# EAGLE library part LORLIN-4-3 (library switch-lorlin)
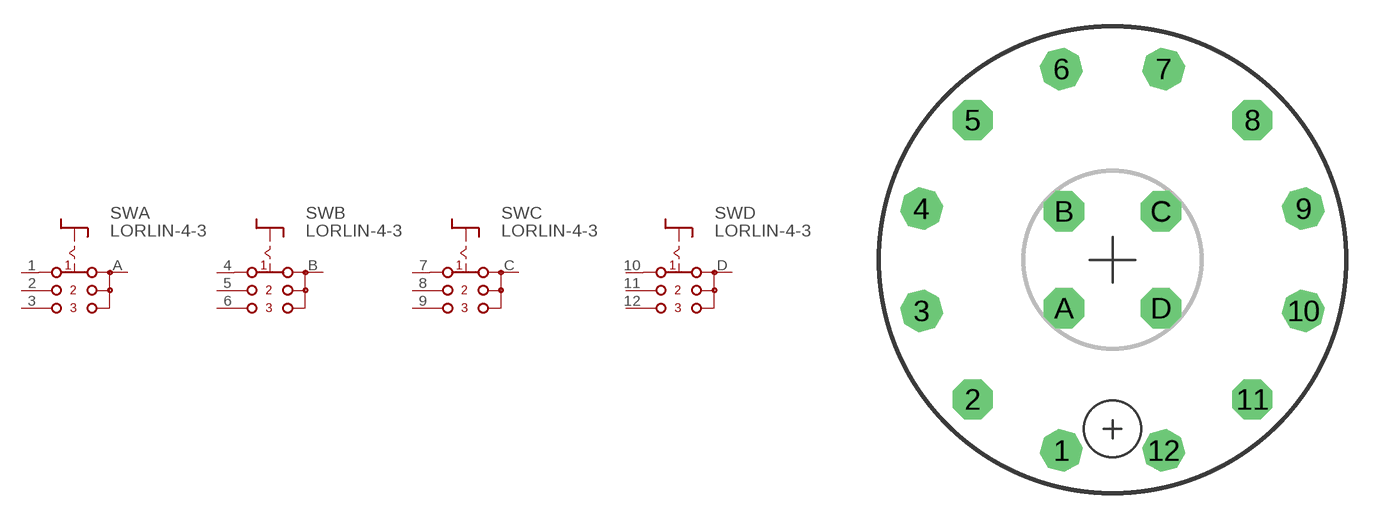
[diagram p3: symbol with the pads of LORLIN-4-3; footprint LORLIN-4-3]

Designator prefix SW; gates A=SW-1-3 B=SW-1-3 C=SW-1-3 D=SW-1-3

## LORLIN-4-3  [LORLIN-4-3]
1  A:1  pas
2  A:2  pas
3  A:3  pas
4  B:1  pas
5  B:2  pas
6  B:3  pas
7  C:1  pas
8  C:2  pas
9  C:3  pas
10  D:1  pas
11  D:2  pas
12  D:3  pas
A  A:S  pas
B  B:S  pas
C  C:S  pas
D  D:S  pas

## Footprint LORLIN-4-3 (pad centres in mm)
drill 1.5 octagon: 1 -2.873,-10.722; 2 -7.849,-7.849; 3 -10.722,-2.873; 4 -10.722,2.873; 5 -7.849,7.849; 6 -2.873,10.722; 7 2.873,10.722; 8 7.849,7.849; 9 10.722,2.873; 10 10.722,-2.873; 11 7.849,-7.849; 12 2.873,-10.722; A -2.722,-2.722; B -2.722,2.722; C 2.722,2.722; D 2.722,-2.722